# EAGLE library part HMC5883L (library SparkFun-Sensors)
Honewell HMC5883L 3 Axis Digital Compass IC a 3-axis digital magnetometer designed for low-field magnetic sensing. The sensor has a full-scale range of ±8 Guass and a resolution of up to 5 milli-Gauss. Supplied voltage should be between 2.16 and 3.6VDC. Communication with the HMC5883L is simple and all done through an I2C interface. All registers and operating modes are well described in the datasheet below. Datasheet <http://cdn.sparkfun.com/datasheets/Sensors/Magneto/HMC5883L-FDS.pdf> SparkFun Products Magnetometer Digital Triple Axis - HMC5883L <https://www.sparkfun.com/products/10494> (COM-10494) SparkFun Triple Axis Magnetometer Breakout - HMC5883L <https://www.sparkfun.com/products/10530> (SEN-10530) 9 Degrees of Freedom - Razor IMU <https://www.sparkfun.com/products/10736> (SEN-10736) SparkFun 9 Degrees of Freedom - Sensor Stick <https://www.sparkfun.com/products/10724> (SEN-10724)
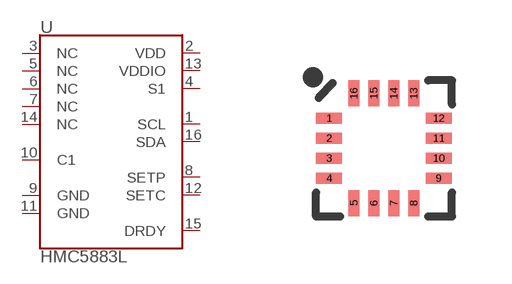
[diagram p11: symbol with the pads of LPCC-16; footprint LPCC-16]

Designator prefix U

## HMC5883L (PROD_ID: IC-10284; SF_ID: COM-10494)  [LPCC-16]
1  SCL
2  VDD
3  NC
4  S1
5  NC
6  NC
7  NC
8  SETP
9  GND
10  C1
11  GND
12  SETC
13  VDDIO
14  NC
15  DRDY
16  SDA

## Footprint LPCC-16 (pad centres in mm)
16-Pin LCC (3 x 3 x 0.9 mm) Datasheet <http://cdn.sparkfun.com/datasheets/Sensors/Magneto/HMC5883L-FDS.pdf> Specifications: Pin Count: 16 Area: 3.0 x 3.0 x 0.9 mm Pitch: 0.5 mm Devices Using: HMC5883L
smd 0.65 x 0.28: 1 -1.37,0.75; 2 -1.37,0.25; 3 -1.37,-0.25; 4 -1.37,-0.75; 9 1.37,-0.75; 10 1.37,-0.25; 11 1.37,0.25; 12 1.37,0.75
smd 0.28 x 0.65: 5 -0.75,-1.37; 6 -0.25,-1.37; 7 0.25,-1.37; 8 0.75,-1.37; 13 0.75,1.37; 14 0.25,1.37; 15 -0.25,1.37; 16 -0.75,1.37